# Altium footprint library IDC2.54-H26C.PcbLib: 1 footprints
Each footprint in its own frame and in the unit in brackets; x right, y up, seen from the top. Pads: shape width x height; smd on the part's side, far side on the other; paste and mask are expansions set on the pad; w line width, h text height; cw(c..) or ccw(c..) is an arc to the next point about the centre after c.
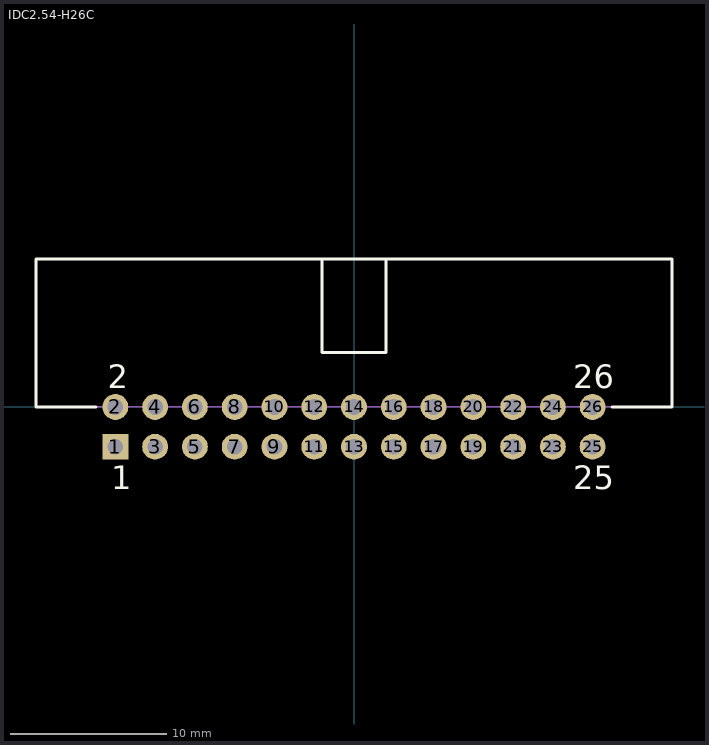
[diagram p0: the footprint, top view; thin cyan lines are the x and y axes]

## IDC2.54-H26C [mm] "Connector; IDC, Low Profile Male Header, Thru-Hole; 26 Position; Right Angle; Pitch 2.54 mm; Body 40.64 x 8.9 x 9.2 mm (LxWxH)"
height 9.2
pads (26):
  rect 1.65x1.65 hole 1: 1(-15.24,-2.54)
  round 1.65 hole 1: 2(-15.24,0) 3(-12.7,-2.54) 4(-12.7,0) 5(-10.16,-2.54) 6(-10.16,0) 7(-7.62,-2.54) 8(-7.62,0) 9(-5.08,-2.54) 10(-5.08,0) 11(-2.54,-2.54) 12(-2.54,0) 13(0,-2.54) 14(0,0) 15(2.54,-2.54) 16(2.54,0) 17(5.08,-2.54) 18(5.08,0) 19(7.62,-2.54) 20(7.62,0) 21(10.16,-2.54) 22(10.16,0) 23(12.7,-2.54) 24(12.7,0) 25(15.24,-2.54) 26(15.24,0)
Top Overlay:
  lines w0.2: -16.465,0 -20.32,0 -20.32,9.45 20.32,9.45 20.32,0 16.465,0 ; -2.05,9.45 -2.05,3.48 2.05,3.48 2.05,9.45
  text "2" at -15.74,1.2 h1.5
  text "1" at -15.49,-5.24 h1.5
  text "26" at 13.99,1.2 h1.5
  text "25" at 13.99,-5.24 h1.5
Mechanical 13:
  lines w0.1: -20.32,0 -20.32,9.45 20.32,9.45 20.32,0 -20.32,0
3D body: height 9.2, standoff 0, extent -20.32,0 20.32,9.45